# Altium integrated library ON Semi Logic Gate.IntLib: 342 symbols (part 1 of 7)
Pins are listed as number, name and electrical type; pins without a type are passive.

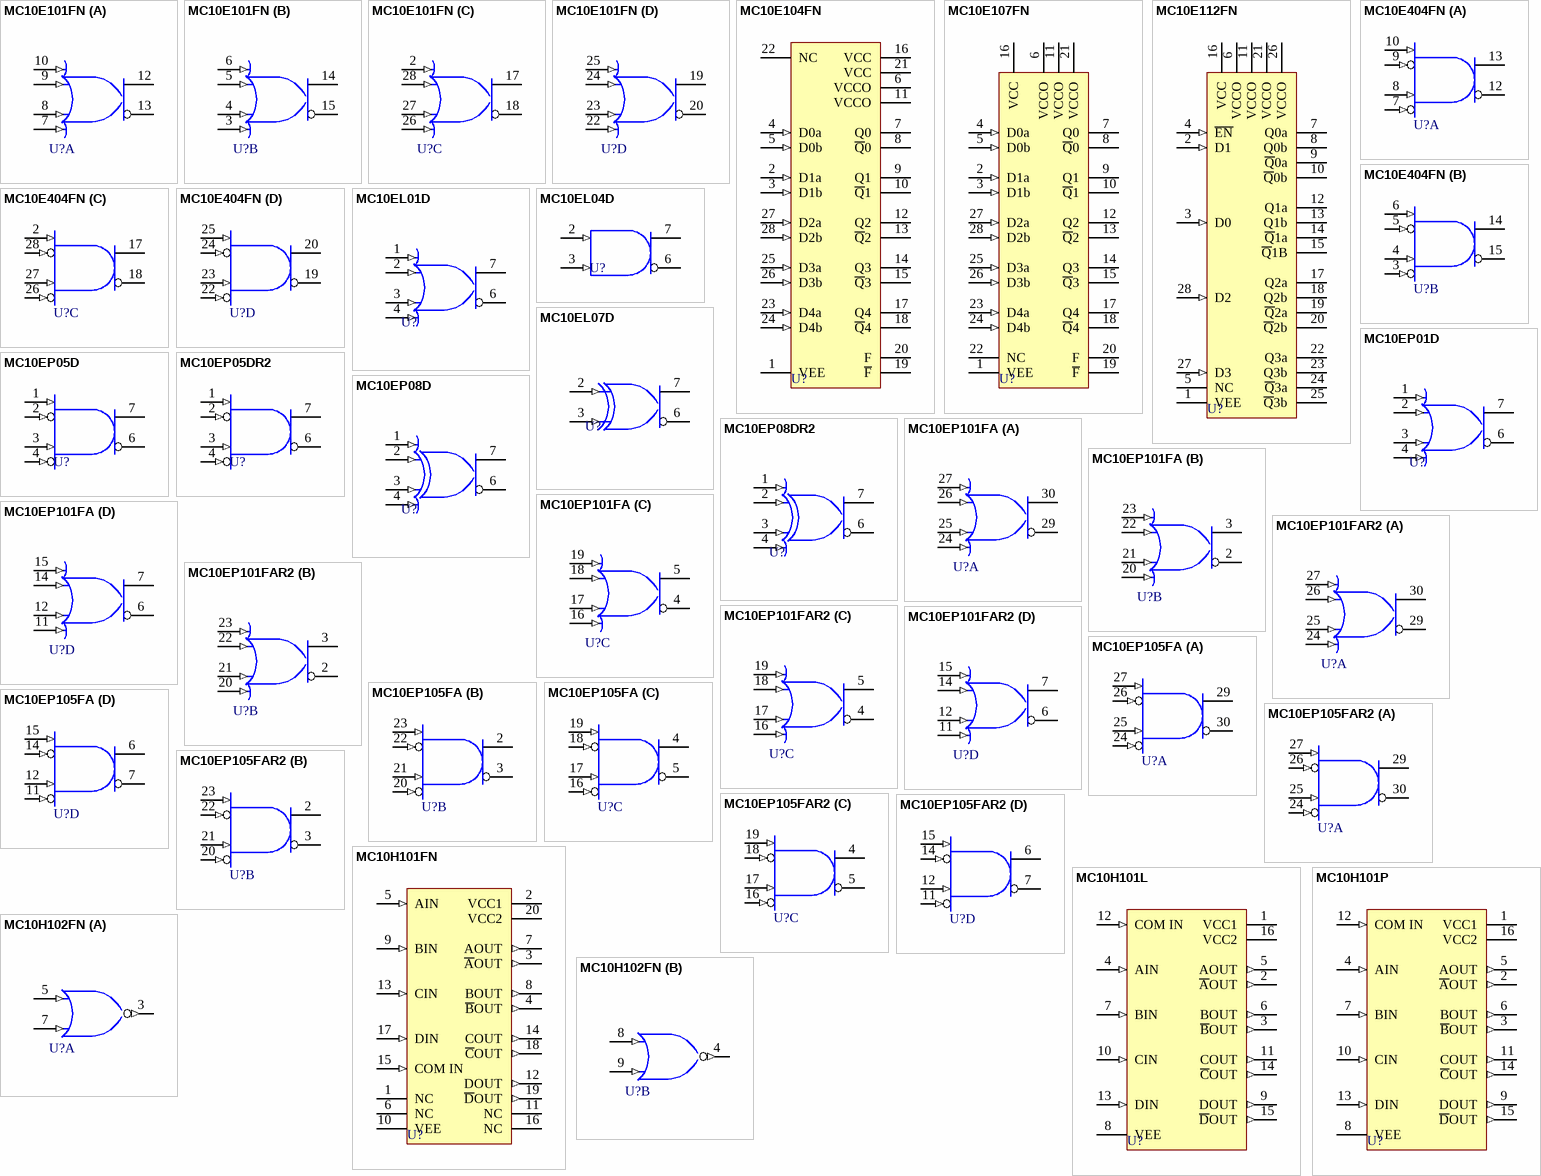
[diagram p0: symbols MC10E101FN to MC10H102FN]

## MC10E101FN
designator U?
Quad 4-Input OR/NOR Gate; Published: 15-Apr-2002; LatestRevisionDate: 12-Dec-2006; LatestRevisionNote: Dot placed on pins 15, 18, 20.; DatasheetVersion: 1996; PackageVersion: Feb-2000; PackageReference: 776-02; Publisher: Altium Limited; PackageDescription: 28-Pin Leaded Chip Carrier 1.27 mm Pitch; ComponentLink1Description: Manufacturer Link; ComponentLink1URL: http://www.onsemi.com/; ComponentLink2Description: Datasheet; ComponentLink2URL: http://www.onsemi.com/pub/Collateral/MC10E101-D.PDF
footprint 776-02_N (Leaded Chip Carrier, 28-Leads, Body 11.5x11.5mm, Pitch 1.27mm, IPC Medium Density)
footprint 776-02_L (Leaded Chip Carrier, 28-Leads, Body 11.5x11.5mm, Pitch 1.27mm, IPC High Density)
footprint 776-02_M (Leaded Chip Carrier, 28-Leads, Body 11.5x11.5mm, Pitch 1.27mm, IPC Low Density)
pins on every part: 1 VEE (power) hidden to VEE, 11 VCCO (power) hidden to VCCO, 16 VCC (power) hidden to VCC, 21 VCCO (power) hidden to VCCO
part A pins: 7 D0d (in), 8 D0c (in), 9 D0b (in), 10 D0a (in), 12 Q0 (oe), 13 ~{Q}0 (oe)
part B pins: 3 D1d (in), 4 D1c (in), 5 D1b (in), 6 D1a (in), 14 Q1 (oe), 15 ~{Q}1 (oe)
part C pins: 2 D2a (in), 17 Q2 (oe), 18 ~{Q}2 (oe), 26 D2d (in), 27 D2c (in), 28 D2b (in)
part D pins: 19 Q3 (oe), 20 ~{Q}3 (oe), 22 D3d (in), 23 D3c (in), 24 D3b (in), 25 D3a (in)

## MC10E104FN
designator U?
Quint 2-Input AND/NAND Gate; Published: 15-Apr-2002; LatestRevisionDate: 13-Apr-2006; LatestRevisionNote: IPC-7351 Footprint Added.; DatasheetVersion: 1996; PackageVersion: Feb-2000; PackageReference: 776-02; Publisher: Altium Limited; PackageDescription: 28-Pin Leaded Chip Carrier 1.27 mm Pitch; ComponentLink1Description: Manufacturer Link; ComponentLink1URL: http://www.onsemi.com/; ComponentLink2Description: Datasheet; ComponentLink2URL: http://www.onsemi.com/pub/Collateral/MC10E104-D.PDF
footprint 776-02_N (Leaded Chip Carrier, 28-Leads, Body 11.5x11.5mm, Pitch 1.27mm, IPC Medium Density)
footprint 776-02_L (Leaded Chip Carrier, 28-Leads, Body 11.5x11.5mm, Pitch 1.27mm, IPC High Density)
footprint 776-02_M (Leaded Chip Carrier, 28-Leads, Body 11.5x11.5mm, Pitch 1.27mm, IPC Low Density)
pins: 1 VEE (power), 2 D1a (in), 3 D1b (in), 4 D0a (in), 5 D0b (in), 6 VCCO (power), 7 Q0 (oe), 8 ~{Q}0 (oe), 9 Q1 (oe), 10 ~{Q}1 (oe), 11 VCCO (power), 12 Q2 (oe), 13 ~{Q}2 (oe), 14 Q3 (oe), 15 ~{Q}3 (oe), 16 VCC (power), 17 Q4 (oe), 18 ~{Q}4 (oe), 19 ~{F} (oe), 20 F (oe), 21 VCC (power), 22 NC, 23 D4a (in), 24 D4b (in), 25 D3a (in), 26 D3b (in), 27 D2a (in), 28 D2b (in)

## MC10E107FN
designator U?
Quint 2-Input XOR/XNOR Gate; Published: 15-Apr-2002; LatestRevisionDate: 13-Apr-2006; LatestRevisionNote: IPC-7351 Footprint Added.; DatasheetVersion: 1996; PackageVersion: Feb-2000; PackageReference: 776-02; Publisher: Altium Limited; PackageDescription: 28-Pin Leaded Chip Carrier 1.27 mm Pitch; ComponentLink1Description: Manufacturer Link; ComponentLink1URL: http://www.onsemi.com/; ComponentLink2Description: Datasheet; ComponentLink2URL: http://www.onsemi.com/pub/Collateral/MC10E107-D.PDF
footprint 776-02_N (Leaded Chip Carrier, 28-Leads, Body 11.5x11.5mm, Pitch 1.27mm, IPC Medium Density)
footprint 776-02_L (Leaded Chip Carrier, 28-Leads, Body 11.5x11.5mm, Pitch 1.27mm, IPC High Density)
footprint 776-02_M (Leaded Chip Carrier, 28-Leads, Body 11.5x11.5mm, Pitch 1.27mm, IPC Low Density)
pins: 1 VEE (power), 2 D1a (in), 3 D1b (in), 4 D0a (in), 5 D0b (in), 6 VCCO (power), 7 Q0 (oe), 8 ~{Q}0 (oe), 9 Q1 (oe), 10 ~{Q}1 (oe), 11 VCCO (power), 12 Q2 (oe), 13 ~{Q}2 (oe), 14 Q3 (oe), 15 ~{Q}3 (oe), 16 VCC (power), 17 Q4 (oe), 18 ~{Q}4 (oe), 19 ~{F} (oe), 20 F (oe), 21 VCCO (power), 22 NC, 23 D4a (in), 24 D4b (in), 25 D3a (in), 26 D3b (in), 27 D2a (in), 28 D2b (in)

## MC10E112FN
designator U?
Quad Driver; Published: 15-Apr-2002; LatestRevisionDate: 13-Apr-2006; LatestRevisionNote: IPC-7351 Footprint Added.; DatasheetVersion: 1996; PackageVersion: Feb-2000; PackageReference: 776-02; Publisher: Altium Limited; PackageDescription: 28-Pin Leaded Chip Carrier 1.27 mm Pitch; ComponentLink1Description: Manufacturer Link; ComponentLink1URL: http://www.onsemi.com/; ComponentLink2Description: Datasheet; ComponentLink2URL: http://www.onsemi.com/pub/Collateral/MC10E112-D.PDF
footprint 776-02_N (Leaded Chip Carrier, 28-Leads, Body 11.5x11.5mm, Pitch 1.27mm, IPC Medium Density)
footprint 776-02_L (Leaded Chip Carrier, 28-Leads, Body 11.5x11.5mm, Pitch 1.27mm, IPC High Density)
footprint 776-02_M (Leaded Chip Carrier, 28-Leads, Body 11.5x11.5mm, Pitch 1.27mm, IPC Low Density)
pins: 1 VEE (power), 2 D1 (in), 3 D0 (in), 4 ~{EN} (in), 5 NC, 6 VCCO (power), 7 Q0a (oe), 8 Q0b (oe), 9 ~{Q}0a (oe), 10 ~{Q}0b (oe), 11 VCCO (power), 12 Q1a (oe), 13 Q1b (oe), 14 ~{Q}1a (oe), 15 ~{Q}1B (oe), 16 VCC (power), 17 Q2a (oe), 18 Q2b (oe), 19 ~{Q}2a (oe), 20 ~{Q}2b (oe), 21 VCCO (power), 22 Q3a (oe), 23 Q3b (oe), 24 ~{Q}3a (oe), 25 ~{Q}3b (oe), 26 VCCO (power), 27 D3 (in), 28 D2 (in)

## MC10E404FN
designator U?
Quad Differential AND/NAND Gate; Published: 15-Apr-2002; LatestRevisionDate: 13-Apr-2006; LatestRevisionNote: IPC-7351 Footprint Added.; DatasheetVersion: 1996; PackageVersion: Feb-2000; PackageReference: 776-02; Publisher: Altium Limited; PackageDescription: 28-Pin Leaded Chip Carrier 1.27 mm Pitch; ComponentLink1Description: Manufacturer Link; ComponentLink1URL: http://www.onsemi.com/; ComponentLink2Description: Datasheet; ComponentLink2URL: http://www.onsemi.com/pub/Collateral/MC10E404-D.PDF
footprint 776-02_N (Leaded Chip Carrier, 28-Leads, Body 11.5x11.5mm, Pitch 1.27mm, IPC Medium Density)
footprint 776-02_L (Leaded Chip Carrier, 28-Leads, Body 11.5x11.5mm, Pitch 1.27mm, IPC High Density)
footprint 776-02_M (Leaded Chip Carrier, 28-Leads, Body 11.5x11.5mm, Pitch 1.27mm, IPC Low Density)
pins on every part: 1 VEE (power) hidden to VEE, 11 VCCO (power) hidden to VCCO, 16 VCC (power) hidden to VCC, 21 VCCO (power) hidden to VCCO
part A pins: 7 ~{D}0b (in), 8 D0b (in), 9 ~{D}0a (in), 10 D0a (in), 12 ~{Q}0 (oe), 13 Q0 (oe)
part B pins: 3 ~{D}1b (in), 4 D1b (in), 5 ~{D}1a (in), 6 D1a (in), 14 Q1 (oe), 15 ~{Q}1 (oe)
part C pins: 2 D2a (in), 17 Q2 (oe), 18 ~{Q}2 (oe), 26 ~{D}2b (in), 27 D2b (in), 28 ~{D}2a (in)
part D pins: 19 ~{Q}3 (oe), 20 Q3 (oe), 22 ~{D}3b (in), 23 D3b (in), 24 ~{D}3a (in), 25 D3a (in)

## MC10EL01D
designator U?
4-Input OR/NOR Gate; Published: 15-Apr-2002; LatestRevisionDate: 13-Apr-2006; LatestRevisionNote: IPC-7351 Footprint Added.; DatasheetVersion: 1996; PackageVersion: Feb-2000; PackageReference: 776-02; Publisher: Altium Limited; PackageDescription: 28-Pin Leaded Chip Carrier 1.27 mm Pitch; ComponentLink1Description: Manufacturer Link; ComponentLink1URL: http://www.onsemi.com/; ComponentLink2Description: Datasheet; ComponentLink2URL: http://www.onsemi.com/pub/Collateral/MC10EL01-D.PDF
footprint 776-02_N (Leaded Chip Carrier, 28-Leads, Body 11.5x11.5mm, Pitch 1.27mm, IPC Medium Density)
footprint 776-02_L (Leaded Chip Carrier, 28-Leads, Body 11.5x11.5mm, Pitch 1.27mm, IPC High Density)
footprint 776-02_M (Leaded Chip Carrier, 28-Leads, Body 11.5x11.5mm, Pitch 1.27mm, IPC Low Density)
pins: 1 D0 (in), 2 D1 (in), 3 D2 (in), 4 D3 (in), 5 VEE (power) hidden to VEE, 6 ~{Q} (oe), 7 Q (oe), 8 VCC (power) hidden to VCC

## MC10EL04D
designator U?
2-Input AND/NAND Gate; Note: NC Pins are pins 1, 4 and not drawn.; Published: 15-Apr-2002; LatestRevisionDate: 13-Apr-2006; LatestRevisionNote: IPC-7351 Footprint Added.; DatasheetVersion: 1996; PackageVersion: 1998; PackageReference: 751-05; Publisher: Altium Limited; PackageDescription: 8-Pin Small Outline Integrated Circuit 1.27 mm Pitch; Code_JEDEC: MS-012-AA; Code_IPC: SOIC127P600-8; ComponentLink1Description: Manufacturer Link; ComponentLink1URL: http://www.onsemi.com/; ComponentLink2Description: Datasheet; ComponentLink2URL: http://www.onsemi.com/pub/Collateral/MC10EL04-D.PDF
footprint 751-05_N (SOIC, 8-Leads, Body 4.9x3.9mm, Pitch 1.27mm, IPC Medium Density)
footprint 751-05_L (SOIC, 8-Leads, Body 4.9x3.9mm, Pitch 1.27mm, IPC High Density)
footprint 751-05_M (SOIC, 8-Leads, Body 4.9x3.9mm, Pitch 1.27mm, IPC Low Density)
pins: 2 D0 (in), 3 D1 (in), 5 VEE (power) hidden to VEE, 6 ~{Q} (oe), 7 Q (oe), 8 VCC (power) hidden to VCC

## MC10EL07D
designator U?
2-Input XOR/XNOR Gate; Note: NC Pins are pins 1, 4 and not drawn.; Published: 15-Apr-2002; LatestRevisionDate: 13-Apr-2006; LatestRevisionNote: IPC-7351 Footprint Added.; DatasheetVersion: 1996; PackageVersion: 1998; PackageReference: 751-05; Publisher: Altium Limited; PackageDescription: 8-Pin Small Outline Integrated Circuit 1.27 mm Pitch; Code_JEDEC: MS-012-AA; Code_IPC: SOIC127P600-8; ComponentLink1Description: Manufacturer Link; ComponentLink1URL: http://www.onsemi.com/; ComponentLink2Description: Datasheet; ComponentLink2URL: http://www.onsemi.com/pub/Collateral/MC10EL07-D.PDF
footprint 751-05_N (SOIC, 8-Leads, Body 4.9x3.9mm, Pitch 1.27mm, IPC Medium Density)
footprint 751-05_L (SOIC, 8-Leads, Body 4.9x3.9mm, Pitch 1.27mm, IPC High Density)
footprint 751-05_M (SOIC, 8-Leads, Body 4.9x3.9mm, Pitch 1.27mm, IPC Low Density)
pins: 2 D0 (in), 3 D1 (in), 5 VEE (power) hidden to VEE, 6 ~{Q} (oe), 7 Q (oe), 8 VCC (power) hidden to VCC

## MC10EP01D
designator U?
4-Input OR/NOR Gate; Published: 15-Apr-2002; LatestRevisionDate: 13-Apr-2006; LatestRevisionNote: IPC-7351 Footprint Added.; DatasheetVersion: Sep-1999; PackageVersion: Sep-1999; PackageReference: 751-06; Publisher: Altium Limited; PackageDescription: 8-Pin Small Outline Integrated Circuit 1.27 mm Pitch; Code_JEDEC: MS-012-AA; Code_IPC: SOIC127P600-8; ComponentLink1Description: Manufacturer Link; ComponentLink1URL: http://www.onsemi.com/; ComponentLink2Description: Datasheet; ComponentLink2URL: http://www.onsemi.com/pub/Collateral/MC10EP01-D.PDF
footprint 751-06_N (SOIC, 8-Leads, Body 4.9x3.9mm, Pitch 1.27mm, IPC Medium Density)
footprint 751-06_L (SOIC, 8-Leads, Body 4.9x3.9mm, Pitch 1.27mm, IPC High Density)
footprint 751-06_M (SOIC, 8-Leads, Body 4.9x3.9mm, Pitch 1.27mm, IPC Low Density)
pins: 1 D0 (in), 2 D1 (in), 3 D2 (in), 4 D3 (in), 5 VEE (power) hidden to VEE, 6 ~{Q} (oe), 7 Q (oe), 8 VCC (power) hidden to VCC

## MC10EP05D
designator U?
2-Input Differential AND/NAND Gate; Published: 15-Apr-2002; LatestRevisionDate: 13-Apr-2006; LatestRevisionNote: IPC-7351 Footprint Added.; DatasheetVersion: Sep-1999; PackageVersion: Sep-1999; PackageReference: 751-06; Publisher: Altium Limited; PackageDescription: 8-Pin Small Outline Integrated Circuit 1.27 mm Pitch; Code_JEDEC: MS-012-AA; Code_IPC: SOIC127P600-8; ComponentLink1Description: Manufacturer Link; ComponentLink1URL: http://www.onsemi.com/; ComponentLink2Description: Datasheet; ComponentLink2URL: http://www.onsemi.com/pub/Collateral/MC10EP05-D.PDF
footprint 751-06_N (SOIC, 8-Leads, Body 4.9x3.9mm, Pitch 1.27mm, IPC Medium Density)
footprint 751-06_L (SOIC, 8-Leads, Body 4.9x3.9mm, Pitch 1.27mm, IPC High Density)
footprint 751-06_M (SOIC, 8-Leads, Body 4.9x3.9mm, Pitch 1.27mm, IPC Low Density)
pins: 1 D0 (in), 2 ~{D}0 (in), 3 D1 (in), 4 ~{D}1 (in), 5 VEE (power) hidden to VEE, 6 ~{Q} (oe), 7 Q (oe), 8 VCC (power) hidden to VCC

## MC10EP05DR2
designator U?
2-Input Differential AND/NAND Gate; Published: 15-Apr-2002; LatestRevisionDate: 13-Apr-2006; LatestRevisionNote: IPC-7351 Footprint Added.; DatasheetVersion: Sep-1999; PackageVersion: Sep-1999; PackageReference: 751-06; Publisher: Altium Limited; PackageDescription: 8-Pin Small Outline Integrated Circuit 1.27 mm Pitch; Code_JEDEC: MS-012-AA; Code_IPC: SOIC127P600-8; ComponentLink1Description: Manufacturer Link; ComponentLink1URL: http://www.onsemi.com/; ComponentLink2Description: Datasheet; ComponentLink2URL: http://www.onsemi.com/pub/Collateral/MC10EP05-D.PDF
footprint 751-06_N (SOIC, 8-Leads, Body 4.9x3.9mm, Pitch 1.27mm, IPC Medium Density)
footprint 751-06_L (SOIC, 8-Leads, Body 4.9x3.9mm, Pitch 1.27mm, IPC High Density)
footprint 751-06_M (SOIC, 8-Leads, Body 4.9x3.9mm, Pitch 1.27mm, IPC Low Density)
pins: 1 D0 (in), 2 ~{D}0 (in), 3 D1 (in), 4 ~{D}1 (in), 5 VEE (power) hidden to VEE, 6 ~{Q} (oe), 7 Q (oe), 8 VCC (power) hidden to VCC

## MC10EP08D
designator U?
Differential 2-Input XOR/XNOR Gate; Published: 15-Apr-2002; LatestRevisionDate: 13-Apr-2006; LatestRevisionNote: IPC-7351 Footprint Added.; DatasheetVersion: Sep-1999; PackageVersion: Sep-1999; PackageReference: 751-06; Publisher: Altium Limited; PackageDescription: 8-Pin Small Outline Integrated Circuit 1.27 mm Pitch; Code_JEDEC: MS-012-AA; Code_IPC: SOIC127P600-8; ComponentLink1Description: Manufacturer Link; ComponentLink1URL: http://www.onsemi.com/; ComponentLink2Description: Datasheet; ComponentLink2URL: http://www.onsemi.com/pub/Collateral/MC10EP08-D.PDF
footprint 751-06_N (SOIC, 8-Leads, Body 4.9x3.9mm, Pitch 1.27mm, IPC Medium Density)
footprint 751-06_L (SOIC, 8-Leads, Body 4.9x3.9mm, Pitch 1.27mm, IPC High Density)
footprint 751-06_M (SOIC, 8-Leads, Body 4.9x3.9mm, Pitch 1.27mm, IPC Low Density)
pins: 1 D0 (in), 2 ~{D}0 (in), 3 D1 (in), 4 ~{D}1 (in), 5 VEE (power) hidden to VEE, 6 ~{Q} (oe), 7 Q (oe), 8 VCC (power) hidden to VCC

## MC10EP08DR2
designator U?
Differential 2-Input XOR/XNOR Gate; Published: 15-Apr-2002; LatestRevisionDate: 13-Apr-2006; LatestRevisionNote: IPC-7351 Footprint Added.; DatasheetVersion: Sep-1999; PackageVersion: Sep-1999; PackageReference: 751-06; Publisher: Altium Limited; PackageDescription: 8-Pin Small Outline Integrated Circuit 1.27 mm Pitch; Code_JEDEC: MS-012-AA; Code_IPC: SOIC127P600-8; ComponentLink1Description: Manufacturer Link; ComponentLink1URL: http://www.onsemi.com/; ComponentLink2Description: Datasheet; ComponentLink2URL: http://www.onsemi.com/pub/Collateral/MC10EP08-D.PDF
footprint 751-06_N (SOIC, 8-Leads, Body 4.9x3.9mm, Pitch 1.27mm, IPC Medium Density)
footprint 751-06_L (SOIC, 8-Leads, Body 4.9x3.9mm, Pitch 1.27mm, IPC High Density)
footprint 751-06_M (SOIC, 8-Leads, Body 4.9x3.9mm, Pitch 1.27mm, IPC Low Density)
pins: 1 D0 (in), 2 ~{D}0 (in), 3 D1 (in), 4 ~{D}1 (in), 5 VEE (power) hidden to VEE, 6 ~{Q} (oe), 7 Q (oe), 8 VCC (power) hidden to VCC

## MC10EP101FA
designator U?
Quad 4-Input OR/NOR; Note: NC pin is pin 9 and not drawn; Published: 15-Apr-2002; LatestRevisionDate: 13-Apr-2006; LatestRevisionNote: IPC-7351 Footprint Added.; DatasheetVersion: Mar-2000; PackageVersion: May-2000; PackageReference: 873A-02; Publisher: Altium Limited; PackageDescription: 32-Pin Thin Quad Flat Pack 0.8 mm Pitch; ComponentLink1Description: Manufacturer Link; ComponentLink1URL: http://www.onsemi.com/; ComponentLink2Description: Datasheet; ComponentLink2URL: http://www.onsemi.com/pub/Collateral/MC10EP101-D.PDF
footprint 873A-02_N (Thin QFP, 32-Leads, Body 7x7mm, Pitch 0.8mm, IPC Medium Density)
footprint 873A-02_L (Thin QFP, 32-Leads, Body 7x7mm, Pitch 0.8mm, IPC High Density)
footprint 873A-02_M (Thin QFP, 32-Leads, Body 7x7mm, Pitch 0.8mm, IPC Low Density)
pins on every part: 1 VCC (power) hidden to VCC, 8 VCC (power) hidden to VCC, 10 VEE (power) hidden to VEE, 13 VCC (power) hidden to VCC, 28 VEE (power) hidden to VEE, 31 VCC (power) hidden to VCC, 32 VCC (power) hidden to VCC
part A pins: 24 D0d (in), 25 D0c (in), 26 D0b (in), 27 D0a (in), 29 ~{Q}0 (oe), 30 Q0 (oe)
part B pins: 2 ~{Q}1 (oe), 3 Q1 (oe), 20 D1d (in), 21 D1c (in), 22 D1b (in), 23 D1a (in)
part C pins: 4 ~{Q}2 (oe), 5 Q2 (oe), 16 D2d (in), 17 D2c (in), 18 D2b (in), 19 D2a (in)
part D pins: 6 ~{Q}3 (oe), 7 Q3 (oe), 11 D3d (in), 12 D3c (in), 14 D3b (in), 15 D3a (in)

## MC10EP101FAR2
designator U?
Quad 4-Input OR/NOR; Note: NC pin is pin 9 and not drawn; Published: 15-Apr-2002; LatestRevisionDate: 13-Apr-2006; LatestRevisionNote: IPC-7351 Footprint Added.; DatasheetVersion: Mar-2000; PackageVersion: May-2000; PackageReference: 873A-02; Publisher: Altium Limited; PackageDescription: 32-Pin Thin Quad Flat Pack 0.8 mm Pitch; ComponentLink1Description: Manufacturer Link; ComponentLink1URL: http://www.onsemi.com/; ComponentLink2Description: Datasheet; ComponentLink2URL: http://www.onsemi.com/pub/Collateral/MC10EP101-D.PDF
footprint 873A-02_N (Thin QFP, 32-Leads, Body 7x7mm, Pitch 0.8mm, IPC Medium Density)
footprint 873A-02_L (Thin QFP, 32-Leads, Body 7x7mm, Pitch 0.8mm, IPC High Density)
footprint 873A-02_M (Thin QFP, 32-Leads, Body 7x7mm, Pitch 0.8mm, IPC Low Density)
pins on every part: 1 VCC (power) hidden to VCC, 8 VCC (power) hidden to VCC, 10 VEE (power) hidden to VEE, 13 VCC (power) hidden to VCC, 28 VEE (power) hidden to VEE, 31 VCC (power) hidden to VCC, 32 VCC (power) hidden to VCC
part A pins: 24 D0d (in), 25 D0c (in), 26 D0b (in), 27 D0a (in), 29 ~{Q}0 (oe), 30 Q0 (oe)
part B pins: 2 ~{Q}1 (oe), 3 Q1 (oe), 20 D1d (in), 21 D1c (in), 22 D1b (in), 23 D1a (in)
part C pins: 4 ~{Q}2 (oe), 5 Q2 (oe), 16 D2d (in), 17 D2c (in), 18 D2b (in), 19 D2a (in)
part D pins: 6 ~{Q}3 (oe), 7 Q3 (oe), 11 D3d (in), 12 D3c (in), 14 D3b (in), 15 D3a (in)

## MC10EP105FA
designator U?
Quad 2-Input Differential AND/NAND Gate; Note: NC pin is 9 and not drawn; Published: 15-Apr-2002; LatestRevisionDate: 13-Apr-2006; LatestRevisionNote: IPC-7351 Footprint Added.; DatasheetVersion: Dec-1999; PackageVersion: May-2000; PackageReference: 873A-02; Publisher: Altium Limited; PackageDescription: 32-Pin Thin Quad Flat Pack 0.8 mm Pitch; ComponentLink1Description: Manufacturer Link; ComponentLink1URL: http://www.onsemi.com/; ComponentLink2Description: Datasheet; ComponentLink2URL: http://www.onsemi.com/pub/Collateral/MC10EP105-D.PDF
footprint 873A-02_N (Thin QFP, 32-Leads, Body 7x7mm, Pitch 0.8mm, IPC Medium Density)
footprint 873A-02_L (Thin QFP, 32-Leads, Body 7x7mm, Pitch 0.8mm, IPC High Density)
footprint 873A-02_M (Thin QFP, 32-Leads, Body 7x7mm, Pitch 0.8mm, IPC Low Density)
pins on every part: 1 VCC (power) hidden to VCC, 8 VCC (power) hidden to VCC, 10 VEE (power) hidden to VEE, 13 VCC (power) hidden to VCC, 28 VEE (power) hidden to VEE, 31 VCC (power) hidden to VCC, 32 VCC (power) hidden to VCC
part A pins: 24 ~{B} (in), 25 B (in), 26 ~{A} (in), 27 A (in), 29 Y (oe), 30 ~{Y} (oe)
part B pins: 2 Y (oe), 3 ~{Y} (oe), 20 ~{B} (in), 21 B (in), 22 ~{A} (in), 23 A (in)
part C pins: 4 Y (oe), 5 ~{Y} (oe), 16 ~{B} (in), 17 B (in), 18 ~{A} (in), 19 A (in)
part D pins: 6 Y (oe), 7 ~{Y} (oe), 11 ~{B} (in), 12 B (in), 14 ~{A} (in), 15 A (in)

## MC10EP105FAR2
designator U?
Quad 2-Input Differential AND/NAND Gate; Note: NC pin is 9 and not drawn; Published: 15-Apr-2002; LatestRevisionDate: 13-Apr-2006; LatestRevisionNote: IPC-7351 Footprint Added.; DatasheetVersion: Dec-1999; PackageVersion: May-2000; PackageReference: 873A-02; Publisher: Altium Limited; PackageDescription: 32-Pin Thin Quad Flat Pack 0.8 mm Pitch; ComponentLink1Description: Manufacturer Link; ComponentLink1URL: http://www.onsemi.com/; ComponentLink2Description: Datasheet; ComponentLink2URL: http://www.onsemi.com/pub/Collateral/MC10EP105-D.PDF
footprint 873A-02_N (Thin QFP, 32-Leads, Body 7x7mm, Pitch 0.8mm, IPC Medium Density)
footprint 873A-02_L (Thin QFP, 32-Leads, Body 7x7mm, Pitch 0.8mm, IPC High Density)
footprint 873A-02_M (Thin QFP, 32-Leads, Body 7x7mm, Pitch 0.8mm, IPC Low Density)
pins on every part: 1 VCC (power) hidden to VCC, 8 VCC (power) hidden to VCC, 10 VEE (power) hidden to VEE, 13 VCC (power) hidden to VCC, 28 VEE (power) hidden to VEE, 31 VCC (power) hidden to VCC, 32 VCC (power) hidden to VCC
part A pins: 24 ~{B} (in), 25 B (in), 26 ~{A} (in), 27 A (in), 29 Y (oe), 30 ~{Y} (oe)
part B pins: 2 Y (oe), 3 ~{Y} (oe), 20 ~{B} (in), 21 B (in), 22 ~{A} (in), 23 A (in)
part C pins: 4 Y (oe), 5 ~{Y} (oe), 16 ~{B} (in), 17 B (in), 18 ~{A} (in), 19 A (in)
part D pins: 6 Y (oe), 7 ~{Y} (oe), 11 ~{B} (in), 12 B (in), 14 ~{A} (in), 15 A (in)

## MC10H101FN
designator U?
Quad OR/NOR Gate; Note: NC pins are pins 1, 6, 11, 16; Published: 15-Apr-2002; LatestRevisionDate: 13-Apr-2006; LatestRevisionNote: IPC-7351 Footprint Added.; DatasheetVersion: 1996; PackageVersion: 1996; PackageReference: 775-02; Publisher: Altium Limited; PackageDescription: 20-Pin Leaded Chip Carrier 1.27 mm Pitch; ComponentLink1Description: Manufacturer Link; ComponentLink1URL: http://www.onsemi.com/; ComponentLink2Description: Datasheet; ComponentLink2URL: http://www.onsemi.com/pub/Collateral/MC10H101-D.PDF
footprint 775-02_N (Leaded Chip Carrier, 20-Leads, Body 9x9mm, Pitch 1.27mm, IPC Medium Density)
footprint 775-02_L (Leaded Chip Carrier, 20-Leads, Body 9x9mm, Pitch 1.27mm, IPC High Density)
footprint 775-02_M (Leaded Chip Carrier, 20-Leads, Body 9x9mm, Pitch 1.27mm, IPC Low Density)
pins: 1 NC, 2 VCC1 (power), 3 ~{A}OUT (out), 4 ~{B}OUT (out), 5 AIN (in), 6 NC, 7 AOUT (out), 8 BOUT (out), 9 BIN (in), 10 VEE (power), 11 NC, 12 DOUT (out), 13 CIN (in), 14 COUT (out), 15 COM IN (in), 16 NC, 17 DIN (in), 18 ~{C}OUT (out), 19 ~{D}OUT (out), 20 VCC2 (power)

## MC10H101L
designator U?
Quad OR/NOR Gate; Published: 15-Apr-2002; DatasheetVersion: 1996; PackageVersion: 1996; PackageReference: 620-10; Publisher: Altium Limited; PackageDescription: DIP; 16 Leads; Row Spacing 7.62 mm; Pitch 2.54 mm; ComponentLink1Description: Manufacturer Link; ComponentLink1URL: http://www.onsemi.com/; ComponentLink2Description: Datasheet; ComponentLink2URL: http://www.onsemi.com/pub/Collateral/MC10H101-D.PDF
footprint 620-10 (DIP; 16 Leads; Row Spacing 7.62 mm; Pitch 2.54 mm)
pins: 1 VCC1 (power), 2 ~{A}OUT (out), 3 ~{B}OUT (out), 4 AIN (in), 5 AOUT (out), 6 BOUT (out), 7 BIN (in), 8 VEE (power), 9 DOUT (out), 10 CIN (in), 11 COUT (out), 12 COM IN (in), 13 DIN (in), 14 ~{C}OUT (out), 15 ~{D}OUT (out), 16 VCC2 (power)

## MC10H101P
designator U?
Quad OR/NOR Gate; Published: 15-Apr-2002; DatasheetVersion: 1996; PackageVersion: Apr-2000; PackageReference: 648-08; Publisher: Altium Limited; PackageDescription: DIP; 16 Leads; Row Spacing 7.62 mm; Pitch 2.54 mm; Code_JEDEC: MS-001-BB; ComponentLink1Description: Manufacturer Link; ComponentLink1URL: http://www.onsemi.com/; ComponentLink2Description: Datasheet; ComponentLink2URL: http://www.onsemi.com/pub/Collateral/MC10H101-D.PDF
footprint 648-08 (DIP; 16 Leads; Row Spacing 7.62 mm; Pitch 2.54 mm)
pins: 1 VCC1 (power), 2 ~{A}OUT (out), 3 ~{B}OUT (out), 4 AIN (in), 5 AOUT (out), 6 BOUT (out), 7 BIN (in), 8 VEE (power), 9 DOUT (out), 10 CIN (in), 11 COUT (out), 12 COM IN (in), 13 DIN (in), 14 ~{C}OUT (out), 15 ~{D}OUT (out), 16 VCC2 (power)

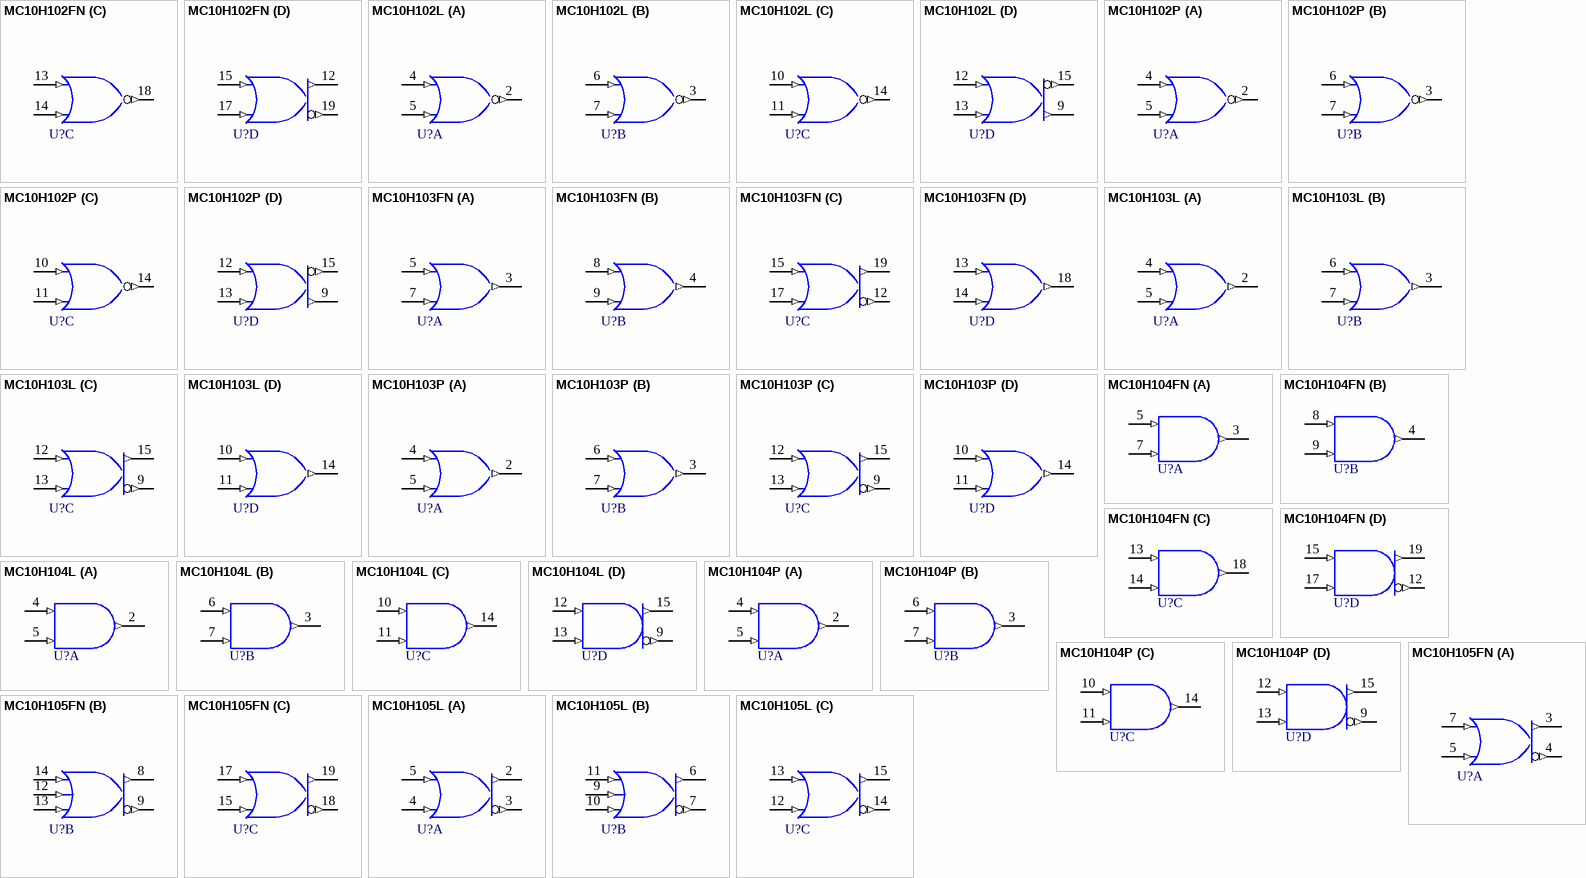
[diagram p1: symbols MC10H102FN to MC10H105L]

## MC10H102FN
designator U?
Quad 2-Input NOR Gate; Note: NC Pins are pins 1, 6, 11, 16.; Published: 15-Apr-2002; LatestRevisionDate: 13-Apr-2006; LatestRevisionNote: IPC-7351 Footprint Added.; DatasheetVersion: 1996; PackageVersion: 1996; PackageReference: 775-02; Publisher: Altium Limited; PackageDescription: 20-Pin Leaded Chip Carrier 1.27 mm Pitch; ComponentLink1Description: Manufacturer Link; ComponentLink1URL: http://www.onsemi.com/; ComponentLink2Description: Datasheet; ComponentLink2URL: http://www.onsemi.com/pub/Collateral/MC10H102-D.PDF
footprint 775-02_N (Leaded Chip Carrier, 20-Leads, Body 9x9mm, Pitch 1.27mm, IPC Medium Density)
footprint 775-02_L (Leaded Chip Carrier, 20-Leads, Body 9x9mm, Pitch 1.27mm, IPC High Density)
footprint 775-02_M (Leaded Chip Carrier, 20-Leads, Body 9x9mm, Pitch 1.27mm, IPC Low Density)
pins on every part: 2 VCC1 (power) hidden to VCC1, 10 VEE (power) hidden to VEE, 20 VCC2 (power) hidden to VCC2
part A pins: 3 ~{Y} (out), 5 A (in), 7 B (in)
part B pins: 4 ~{Y} (out), 8 A (in), 9 B (in)
part C pins: 13 A (in), 14 B (in), 18 ~{Y} (out)
part D pins: 12 Y (out), 15 A (in), 17 B (in), 19 ~{Y} (out)

## MC10H102L
designator U?
Quad 2-Input NOR Gate; Published: 15-Apr-2002; LatestRevisionDate: 28-Feb-2003; LatestRevisionNote: Duplicate Pins Removed; DatasheetVersion: 1996; PackageVersion: 1996; PackageReference: 620-10; Publisher: Altium Limited; PackageDescription: DIP; 16 Leads; Row Spacing 7.62 mm; Pitch 2.54 mm; ComponentLink1Description: Manufacturer Link; ComponentLink1URL: http://www.onsemi.com/; ComponentLink2Description: Datasheet; ComponentLink2URL: http://www.onsemi.com/pub/Collateral/MC10H102-D.PDF
footprint 620-10 (DIP; 16 Leads; Row Spacing 7.62 mm; Pitch 2.54 mm)
pins on every part: 1 VCC1 (power) hidden to VCC1, 8 VEE (power) hidden to VEE, 16 VCC2 (power) hidden to VCC2
part A pins: 2 ~{AOUT} (out), 4 AIN (in), 5 AIN (in)
part B pins: 3 ~{BOUT} (out), 6 BIN (in), 7 BIN (in)
part C pins: 10 CIN (in), 11 CIN (in), 14 ~{COUT} (out)
part D pins: 9 DOUT (out), 12 DIN (in), 13 DIN (in), 15 ~{DOUT} (out)

## MC10H102P
designator U?
Quad 2-Input NOR Gate; Published: 15-Apr-2002; LatestRevisionDate: 28-Feb-2003; LatestRevisionNote: Duplicate Pins Removed; DatasheetVersion: 1996; PackageVersion: Apr-2000; PackageReference: 648-08; Publisher: Altium Limited; PackageDescription: DIP; 16 Leads; Row Spacing 7.62 mm; Pitch 2.54 mm; Code_JEDEC: MS-001-BB; ComponentLink1Description: Manufacturer Link; ComponentLink1URL: http://www.onsemi.com/; ComponentLink2Description: Datasheet; ComponentLink2URL: http://www.onsemi.com/pub/Collateral/MC10H102-D.PDF
footprint 648-08 (DIP; 16 Leads; Row Spacing 7.62 mm; Pitch 2.54 mm)
pins on every part: 1 VCC1 (power) hidden to VCC1, 8 VEE (power) hidden to VEE, 16 VCC2 (power) hidden to VCC2
part A pins: 2 ~{AOUT} (out), 4 AIN (in), 5 AIN (in)
part B pins: 3 ~{BOUT} (out), 6 BIN (in), 7 BIN (in)
part C pins: 10 CIN (in), 11 CIN (in), 14 ~{COUT} (out)
part D pins: 9 DOUT (out), 12 DIN (in), 13 DIN (in), 15 ~{DOUT} (out)

## MC10H103FN
designator U?
Quad 2-Input OR Gate; Note: NC Pins are pins 1, 6, 11, 16.; Published: 15-Apr-2002; LatestRevisionDate: 13-Apr-2006; LatestRevisionNote: IPC-7351 Footprint Added.; DatasheetVersion: 1996; PackageVersion: 1996; PackageReference: 775-02; Publisher: Altium Limited; PackageDescription: 20-Pin Leaded Chip Carrier 1.27 mm Pitch; ComponentLink1Description: Manufacturer Link; ComponentLink1URL: http://www.onsemi.com/; ComponentLink2Description: Datasheet; ComponentLink2URL: http://www.onsemi.com/pub/Collateral/MC10H103-D.PDF
footprint 775-02_N (Leaded Chip Carrier, 20-Leads, Body 9x9mm, Pitch 1.27mm, IPC Medium Density)
footprint 775-02_L (Leaded Chip Carrier, 20-Leads, Body 9x9mm, Pitch 1.27mm, IPC High Density)
footprint 775-02_M (Leaded Chip Carrier, 20-Leads, Body 9x9mm, Pitch 1.27mm, IPC Low Density)
pins on every part: 2 VCC1 (power) hidden to VCC1, 10 VEE (power) hidden to VEE, 20 VCC2 (power) hidden to VCC2
part A pins: 3 Y (out), 5 A (in), 7 B (in)
part B pins: 4 Y (out), 8 A (in), 9 B (in)
part C pins: 12 ~{Y} (out), 15 A (in), 17 B (in), 19 Y (out)
part D pins: 13 A (in), 14 B (in), 18 Y (out)

## MC10H103L
designator U?
Quad 2-Input OR Gate; Published: 15-Apr-2002; DatasheetVersion: 1996; PackageVersion: 1996; PackageReference: 620-10; Publisher: Altium Limited; PackageDescription: DIP; 16 Leads; Row Spacing 7.62 mm; Pitch 2.54 mm; ComponentLink1Description: Manufacturer Link; ComponentLink1URL: http://www.onsemi.com/; ComponentLink2Description: Datasheet; ComponentLink2URL: http://www.onsemi.com/pub/Collateral/MC10H103-D.PDF
footprint 620-10 (DIP; 16 Leads; Row Spacing 7.62 mm; Pitch 2.54 mm)
pins on every part: 1 VCC1 (power) hidden to VCC1, 8 VEE (power) hidden to VEE, 16 VCC2 (power) hidden to VCC2
part A pins: 2 Y (out), 4 A (in), 5 B (in)
part B pins: 3 Y (out), 6 A (in), 7 B (in)
part C pins: 9 ~{Y} (out), 12 A (in), 13 B (in), 15 Y (out)
part D pins: 10 A (in), 11 B (in), 14 Y (out)

## MC10H103P
designator U?
Quad 2-Input OR Gate; Published: 15-Apr-2002; DatasheetVersion: 1996; PackageVersion: Apr-2000; PackageReference: 648-08; Publisher: Altium Limited; PackageDescription: DIP; 16 Leads; Row Spacing 7.62 mm; Pitch 2.54 mm; Code_JEDEC: MS-001-BB; ComponentLink1Description: Manufacturer Link; ComponentLink1URL: http://www.onsemi.com/; ComponentLink2Description: Datasheet; ComponentLink2URL: http://www.onsemi.com/pub/Collateral/MC10H103-D.PDF
footprint 648-08 (DIP; 16 Leads; Row Spacing 7.62 mm; Pitch 2.54 mm)
pins on every part: 1 VCC1 (power) hidden to VCC1, 8 VEE (power) hidden to VEE, 16 VCC2 (power) hidden to VCC2
part A pins: 2 Y (out), 4 A (in), 5 B (in)
part B pins: 3 Y (out), 6 A (in), 7 B (in)
part C pins: 9 ~{Y} (out), 12 A (in), 13 B (in), 15 Y (out)
part D pins: 10 A (in), 11 B (in), 14 Y (out)

## MC10H104FN
designator U?
Quad 2-Input AND Gate; Note: NC Pins are pins 1, 6, 11, 16.; Published: 15-Apr-2002; LatestRevisionDate: 13-Apr-2006; LatestRevisionNote: IPC-7351 Footprint Added.; DatasheetVersion: 1996; PackageVersion: 1996; PackageReference: 775-02; Publisher: Altium Limited; PackageDescription: 20-Pin Leaded Chip Carrier 1.27 mm Pitch; ComponentLink1Description: Manufacturer Link; ComponentLink1URL: http://www.onsemi.com/; ComponentLink2Description: Datasheet; ComponentLink2URL: http://www.onsemi.com/pub/Collateral/MC10H104-D.PDF
footprint 775-02_N (Leaded Chip Carrier, 20-Leads, Body 9x9mm, Pitch 1.27mm, IPC Medium Density)
footprint 775-02_L (Leaded Chip Carrier, 20-Leads, Body 9x9mm, Pitch 1.27mm, IPC High Density)
footprint 775-02_M (Leaded Chip Carrier, 20-Leads, Body 9x9mm, Pitch 1.27mm, IPC Low Density)
pins on every part: 2 VCC1 (power) hidden to VCC1, 10 VEE (power) hidden to VEE, 20 VCC2 (power) hidden to VCC2
part A pins: 3 Y (out), 5 A (in), 7 B (in)
part B pins: 4 Y (out), 8 A (in), 9 B (in)
part C pins: 13 A (in), 14 B (in), 18 Y (out)
part D pins: 12 ~{Y} (out), 15 A (in), 17 B (in), 19 Y (out)

## MC10H104L
designator U?
Quad 2-Input AND Gate; Published: 15-Apr-2002; DatasheetVersion: 1996; PackageVersion: 1996; PackageReference: 620-10; Publisher: Altium Limited; PackageDescription: DIP; 16 Leads; Row Spacing 7.62 mm; Pitch 2.54 mm; ComponentLink1Description: Manufacturer Link; ComponentLink1URL: http://www.onsemi.com/; ComponentLink2Description: Datasheet; ComponentLink2URL: http://www.onsemi.com/pub/Collateral/MC10H104-D.PDF
footprint 620-10 (DIP; 16 Leads; Row Spacing 7.62 mm; Pitch 2.54 mm)
pins on every part: 1 VCC1 (power) hidden to VCC1, 8 VEE (power) hidden to VEE, 16 VCC2 (power) hidden to VCC2
part A pins: 2 Y (out), 4 A (in), 5 B (in)
part B pins: 3 Y (out), 6 A (in), 7 B (in)
part C pins: 10 A (in), 11 B (in), 14 Y (out)
part D pins: 9 ~{Y} (out), 12 A (in), 13 B (in), 15 Y (out)

## MC10H104P
designator U?
Quad 2-Input AND Gate; Published: 15-Apr-2002; DatasheetVersion: 1996; PackageVersion: Apr-2000; PackageReference: 648-08; Publisher: Altium Limited; PackageDescription: DIP; 16 Leads; Row Spacing 7.62 mm; Pitch 2.54 mm; Code_JEDEC: MS-001-BB; ComponentLink1Description: Manufacturer Link; ComponentLink1URL: http://www.onsemi.com/; ComponentLink2Description: Datasheet; ComponentLink2URL: http://www.onsemi.com/pub/Collateral/MC10H104-D.PDF
footprint 648-08 (DIP; 16 Leads; Row Spacing 7.62 mm; Pitch 2.54 mm)
pins on every part: 1 VCC1 (power) hidden to VCC1, 8 VEE (power) hidden to VEE, 16 VCC2 (power) hidden to VCC2
part A pins: 2 Y (out), 4 A (in), 5 B (in)
part B pins: 3 Y (out), 6 A (in), 7 B (in)
part C pins: 10 A (in), 11 B (in), 14 Y (out)
part D pins: 9 ~{Y} (out), 12 A (in), 13 B (in), 15 Y (out)

## MC10H105FN
designator U?
Triple 2-3-2-Input OR/NOR Gate; Note: NC Pins are pins 1, 6, 11, 16.; Published: 15-Apr-2002; LatestRevisionDate: 13-Apr-2006; LatestRevisionNote: IPC-7351 Footprint Added.; DatasheetVersion: 1996; PackageVersion: 1996; PackageReference: 775-02; Publisher: Altium Limited; PackageDescription: 20-Pin Leaded Chip Carrier 1.27 mm Pitch; ComponentLink1Description: Manufacturer Link; ComponentLink1URL: http://www.onsemi.com/; ComponentLink2Description: Datasheet; ComponentLink2URL: http://www.onsemi.com/pub/Collateral/MC10H105-D.PDF
footprint 775-02_N (Leaded Chip Carrier, 20-Leads, Body 9x9mm, Pitch 1.27mm, IPC Medium Density)
footprint 775-02_L (Leaded Chip Carrier, 20-Leads, Body 9x9mm, Pitch 1.27mm, IPC High Density)
footprint 775-02_M (Leaded Chip Carrier, 20-Leads, Body 9x9mm, Pitch 1.27mm, IPC Low Density)
pins on every part: 2 VCC1 (power) hidden to VCC1, 10 VEE (power) hidden to VEE, 20 VCC2 (power) hidden to VCC2
part A pins: 3 Y (out), 4 ~{Y} (out), 5 B (in), 7 A (in)
part B pins: 8 Y (out), 9 ~{Y} (out), 12 B (in), 13 C (in), 14 A (in)
part C pins: 15 B (in), 17 A (in), 18 ~{Y} (out), 19 Y (out)

## MC10H105L
designator U?
Triple 2-3-2-Input OR/NOR Gate; Published: 15-Apr-2002; DatasheetVersion: 1996; PackageVersion: 1996; PackageReference: 620-10; Publisher: Altium Limited; PackageDescription: DIP; 16 Leads; Row Spacing 7.62 mm; Pitch 2.54 mm; ComponentLink1Description: Manufacturer Link; ComponentLink1URL: http://www.onsemi.com/; ComponentLink2Description: Datasheet; ComponentLink2URL: http://www.onsemi.com/pub/Collateral/MC10H105-D.PDF
footprint 620-10 (DIP; 16 Leads; Row Spacing 7.62 mm; Pitch 2.54 mm)
pins on every part: 1 VCC1 (power) hidden to VCC1, 8 VEE (power) hidden to VEE, 16 VCC2 (power) hidden to VCC2
part A pins: 2 Y (out), 3 ~{Y} (out), 4 B (in), 5 A (in)
part B pins: 6 Y (out), 7 ~{Y} (out), 9 B (in), 10 C (in), 11 A (in)
part C pins: 12 B (in), 13 A (in), 14 ~{Y} (out), 15 Y (out)

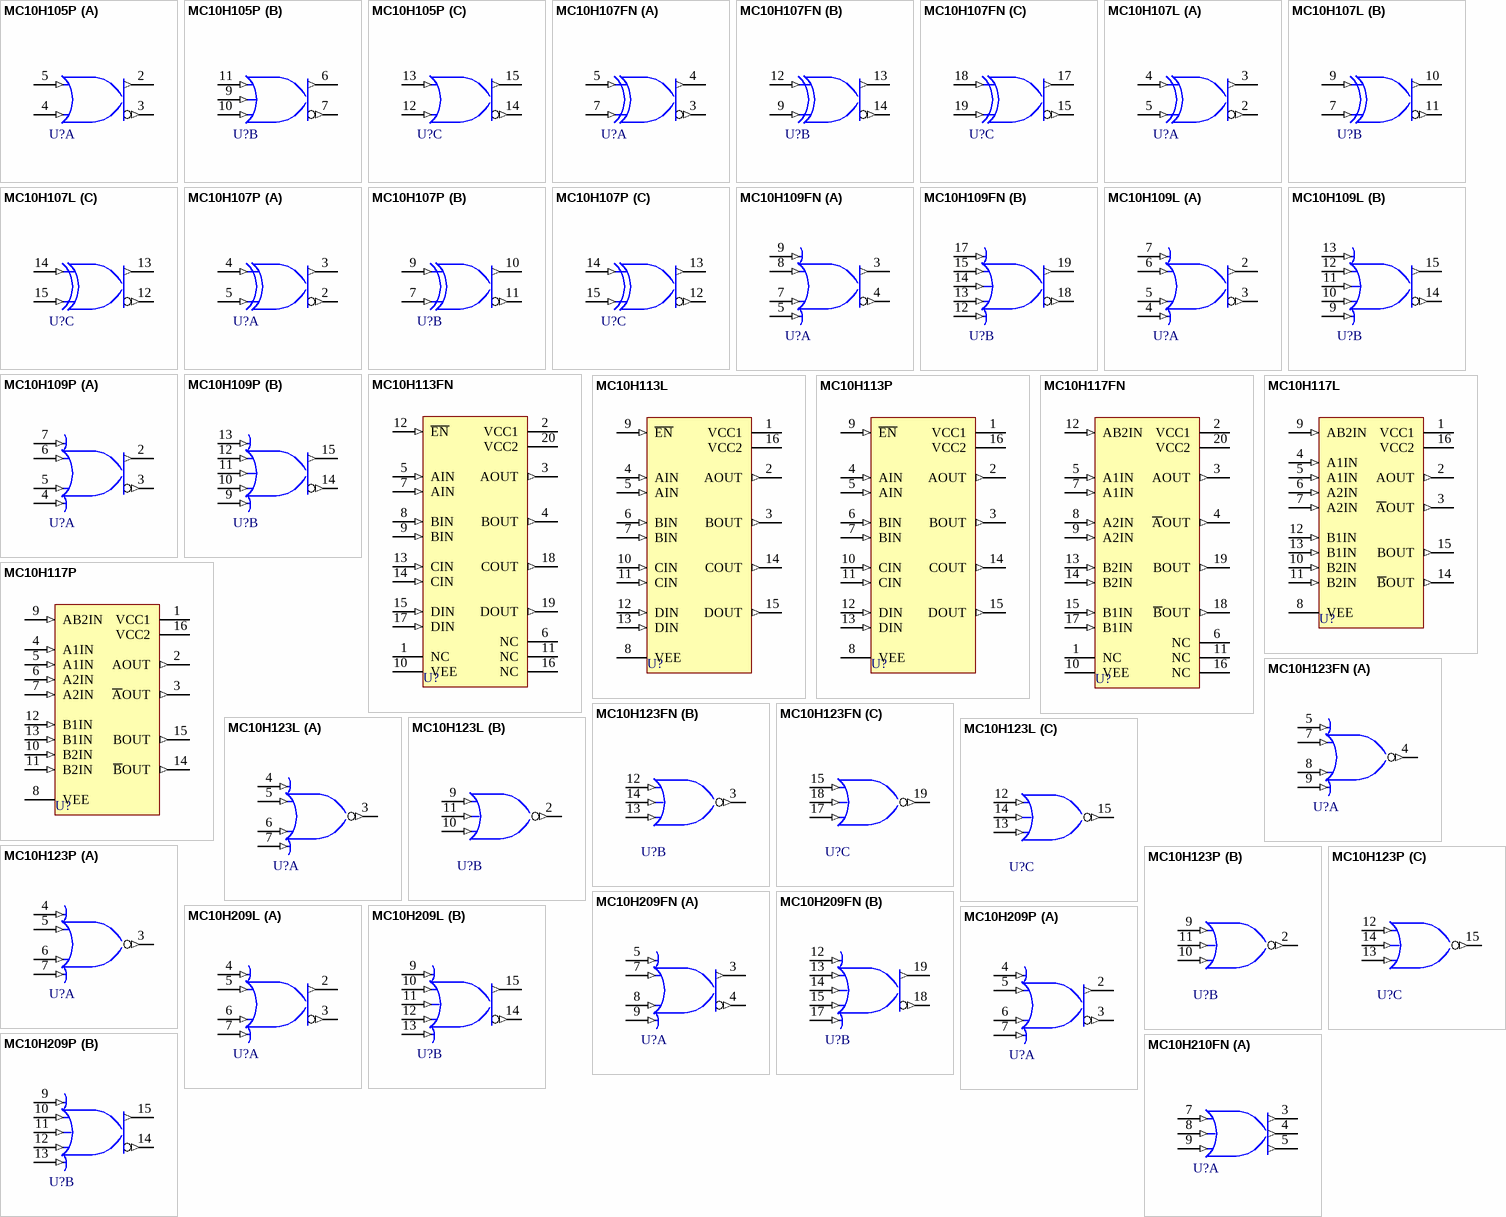
[diagram p2: symbols MC10H105P to MC10H210FN]

## MC10H105P
designator U?
Triple 2-3-2-Input OR/NOR Gate; Published: 15-Apr-2002; DatasheetVersion: 1996; PackageVersion: Apr-2000; PackageReference: 648-08; Publisher: Altium Limited; PackageDescription: DIP; 16 Leads; Row Spacing 7.62 mm; Pitch 2.54 mm; Code_JEDEC: MS-001-BB; ComponentLink1Description: Manufacturer Link; ComponentLink1URL: http://www.onsemi.com/; ComponentLink2Description: Datasheet; ComponentLink2URL: http://www.onsemi.com/pub/Collateral/MC10H105-D.PDF
footprint 648-08 (DIP; 16 Leads; Row Spacing 7.62 mm; Pitch 2.54 mm)
pins on every part: 1 VCC1 (power) hidden to VCC1, 8 VEE (power) hidden to VEE, 16 VCC2 (power) hidden to VCC2
part A pins: 2 Y (out), 3 ~{Y} (out), 4 B (in), 5 A (in)
part B pins: 6 Y (out), 7 ~{Y} (out), 9 B (in), 10 C (in), 11 A (in)
part C pins: 12 B (in), 13 A (in), 14 ~{Y} (out), 15 Y (out)

## MC10H107FN
designator U?
Triple 2-Input XOR/XNOR Gate; Note: NC Pins are pins 1, 6, 11, 16 and not drawn.; Published: 15-Apr-2002; LatestRevisionDate: 13-Apr-2006; LatestRevisionNote: IPC-7351 Footprint Added.; DatasheetVersion: 1996; PackageVersion: 1996; PackageReference: 775-02; Publisher: Altium Limited; PackageDescription: 20-Pin Leaded Chip Carrier 1.27 mm Pitch; ComponentLink1Description: Manufacturer Link; ComponentLink1URL: http://www.onsemi.com/; ComponentLink2Description: Datasheet; ComponentLink2URL: http://www.onsemi.com/pub/Collateral/MC10H107-D.PDF
footprint 775-02_N (Leaded Chip Carrier, 20-Leads, Body 9x9mm, Pitch 1.27mm, IPC Medium Density)
footprint 775-02_L (Leaded Chip Carrier, 20-Leads, Body 9x9mm, Pitch 1.27mm, IPC High Density)
footprint 775-02_M (Leaded Chip Carrier, 20-Leads, Body 9x9mm, Pitch 1.27mm, IPC Low Density)
pins on every part: 2 VCC1 (power) hidden to VCC1, 10 VEE (power) hidden to VEE, 20 VCC2 (power) hidden to VCC2
part A pins: 3 ~{Y} (out), 4 Y (out), 5 A (in), 7 B (in)
part B pins: 9 B (in), 12 A (in), 13 Y (out), 14 ~{Y} (out)
part C pins: 15 ~{Y} (out), 16 VCC2 (power) hidden to VCC2, 17 Y (out), 18 A (in), 19 B (in)

## MC10H107L
designator U?
Triple 2-Input XOR/XNOR Gate; Published: 15-Apr-2002; DatasheetVersion: 1996; PackageVersion: 1996; PackageReference: 620-10; Publisher: Altium Limited; PackageDescription: DIP; 16 Leads; Row Spacing 7.62 mm; Pitch 2.54 mm; ComponentLink1Description: Manufacturer Link; ComponentLink1URL: http://www.onsemi.com/; ComponentLink2Description: Datasheet; ComponentLink2URL: http://www.onsemi.com/pub/Collateral/MC10H107-D.PDF
footprint 620-10 (DIP; 16 Leads; Row Spacing 7.62 mm; Pitch 2.54 mm)
pins on every part: 1 VCC1 (power) hidden to VCC1, 8 VEE (power) hidden to VEE, 16 VCC2 (power) hidden to VCC2
part A pins: 2 ~{Y} (out), 3 Y (out), 4 A (in), 5 B (in)
part B pins: 7 B (in), 9 A (in), 10 Y (out), 11 ~{Y} (out)
part C pins: 12 ~{Y} (out), 13 Y (out), 14 A (in), 15 B (in)

## MC10H107P
designator U?
Triple 2-Input XOR/XNOR Gate; Published: 15-Apr-2002; DatasheetVersion: 1996; PackageVersion: Apr-2000; PackageReference: 648-08; Publisher: Altium Limited; PackageDescription: DIP; 16 Leads; Row Spacing 7.62 mm; Pitch 2.54 mm; Code_JEDEC: MS-001-BB; ComponentLink1Description: Manufacturer Link; ComponentLink1URL: http://www.onsemi.com/; ComponentLink2Description: Datasheet; ComponentLink2URL: http://www.onsemi.com/pub/Collateral/MC10H107-D.PDF
footprint 648-08 (DIP; 16 Leads; Row Spacing 7.62 mm; Pitch 2.54 mm)
pins on every part: 1 VCC1 (power) hidden to VCC1, 8 VEE (power) hidden to VEE, 16 VCC2 (power) hidden to VCC2
part A pins: 2 ~{Y} (out), 3 Y (out), 4 A (in), 5 B (in)
part B pins: 7 B (in), 9 A (in), 10 Y (out), 11 ~{Y} (out)
part C pins: 12 ~{Y} (out), 13 Y (out), 14 A (in), 15 B (in)

## MC10H109FN
designator U?
Dual 4-5-Input OR/NOR Gate; Note: NC Pins are pins 1, 6, 11, 16 and not drawn.; Published: 15-Apr-2002; LatestRevisionDate: 13-Apr-2006; LatestRevisionNote: IPC-7351 Footprint Added.; DatasheetVersion: 1996; PackageVersion: 1996; PackageReference: 775-02; Publisher: Altium Limited; PackageDescription: 20-Pin Leaded Chip Carrier 1.27 mm Pitch; ComponentLink1Description: Manufacturer Link; ComponentLink1URL: http://www.onsemi.com/; ComponentLink2Description: Datasheet; ComponentLink2URL: http://www.onsemi.com/pub/Collateral/MC10H109-D.PDF
footprint 775-02_N (Leaded Chip Carrier, 20-Leads, Body 9x9mm, Pitch 1.27mm, IPC Medium Density)
footprint 775-02_L (Leaded Chip Carrier, 20-Leads, Body 9x9mm, Pitch 1.27mm, IPC High Density)
footprint 775-02_M (Leaded Chip Carrier, 20-Leads, Body 9x9mm, Pitch 1.27mm, IPC Low Density)
pins on every part: 2 VCC1 (power) hidden to VCC1, 10 VEE (power) hidden to VEE, 20 VCC2 (power) hidden to VCC2
part A pins: 3 Y (out), 4 ~{Y} (out), 5 D (in), 7 C (in), 8 B (in), 9 A (in)
part B pins: 12 E (in), 13 D (in), 14 C (in), 15 B (in), 17 A (in), 18 ~{Y} (out), 19 Y (out)

## MC10H109L
designator U?
Dual 4-5-Input OR/NOR Gate; Published: 15-Apr-2002; DatasheetVersion: 1996; PackageVersion: 1996; PackageReference: 620-10; Publisher: Altium Limited; PackageDescription: DIP; 16 Leads; Row Spacing 7.62 mm; Pitch 2.54 mm; ComponentLink1Description: Manufacturer Link; ComponentLink1URL: http://www.onsemi.com/; ComponentLink2Description: Datasheet; ComponentLink2URL: http://www.onsemi.com/pub/Collateral/MC10H109-D.PDF
footprint 620-10 (DIP; 16 Leads; Row Spacing 7.62 mm; Pitch 2.54 mm)
pins on every part: 1 VCC1 (power) hidden to VCC1, 8 VEE (power) hidden to VEE, 16 VCC2 (power) hidden to VCC2
part A pins: 2 Y (out), 3 ~{Y} (out), 4 D (in), 5 C (in), 6 B (in), 7 A (in)
part B pins: 9 E (in), 10 D (in), 11 C (in), 12 B (in), 13 A (in), 14 ~{Y} (out), 15 Y (out)

## MC10H109P
designator U?
Dual 4-5-Input OR/NOR Gate; Published: 15-Apr-2002; DatasheetVersion: 1996; PackageVersion: Apr-2000; PackageReference: 648-08; Publisher: Altium Limited; PackageDescription: DIP; 16 Leads; Row Spacing 7.62 mm; Pitch 2.54 mm; Code_JEDEC: MS-001-BB; ComponentLink1Description: Manufacturer Link; ComponentLink1URL: http://www.onsemi.com/; ComponentLink2Description: Datasheet; ComponentLink2URL: http://www.onsemi.com/pub/Collateral/MC10H109-D.PDF
footprint 648-08 (DIP; 16 Leads; Row Spacing 7.62 mm; Pitch 2.54 mm)
pins on every part: 1 VCC1 (power) hidden to VCC1, 8 VEE (power) hidden to VEE, 16 VCC2 (power) hidden to VCC2
part A pins: 2 Y (out), 3 ~{Y} (out), 4 D (in), 5 C (in), 6 B (in), 7 A (in)
part B pins: 9 E (in), 10 D (in), 11 C (in), 12 B (in), 13 A (in), 14 ~{Y} (out), 15 Y (out)

## MC10H113FN
designator U?
Quad XOR Gate; Note: NC Pins are 1, 6, 11, 16.; Published: 15-Apr-2002; LatestRevisionDate: 13-Apr-2006; LatestRevisionNote: IPC-7351 Footprint Added.; DatasheetVersion: 1996; PackageVersion: 1996; PackageReference: 775-02; Publisher: Altium Limited; PackageDescription: 20-Pin Leaded Chip Carrier 1.27 mm Pitch; ComponentLink1Description: Manufacturer Link; ComponentLink1URL: http://www.onsemi.com/; ComponentLink2Description: Datasheet; ComponentLink2URL: http://www.onsemi.com/pub/Collateral/MC10H113-D.PDF
footprint 775-02_N (Leaded Chip Carrier, 20-Leads, Body 9x9mm, Pitch 1.27mm, IPC Medium Density)
footprint 775-02_L (Leaded Chip Carrier, 20-Leads, Body 9x9mm, Pitch 1.27mm, IPC High Density)
footprint 775-02_M (Leaded Chip Carrier, 20-Leads, Body 9x9mm, Pitch 1.27mm, IPC Low Density)
pins: 1 NC, 2 VCC1 (power), 3 AOUT (out), 4 BOUT (out), 5 AIN (in), 6 NC, 7 AIN (in), 8 BIN (in), 9 BIN (in), 10 VEE (power), 11 NC, 12 ~{EN} (in), 13 CIN (in), 14 CIN (in), 15 DIN (in), 16 NC, 17 DIN (in), 18 COUT (out), 19 DOUT (out), 20 VCC2 (power)

## MC10H113L
designator U?
Quad XOR Gate; Published: 15-Apr-2002; DatasheetVersion: 1996; PackageVersion: 1996; PackageReference: 620-10; Publisher: Altium Limited; PackageDescription: DIP; 16 Leads; Row Spacing 7.62 mm; Pitch 2.54 mm; ComponentLink1Description: Manufacturer Link; ComponentLink1URL: http://www.onsemi.com/; ComponentLink2Description: Datasheet; ComponentLink2URL: http://www.onsemi.com/pub/Collateral/MC10H113-D.PDF
footprint 620-10 (DIP; 16 Leads; Row Spacing 7.62 mm; Pitch 2.54 mm)
pins: 1 VCC1 (power), 2 AOUT (out), 3 BOUT (out), 4 AIN (in), 5 AIN (in), 6 BIN (in), 7 BIN (in), 8 VEE (power), 9 ~{EN} (in), 10 CIN (in), 11 CIN (in), 12 DIN (in), 13 DIN (in), 14 COUT (out), 15 DOUT (out), 16 VCC2 (power)

## MC10H113P
designator U?
Quad XOR Gate; Published: 15-Apr-2002; DatasheetVersion: 1996; PackageVersion: Apr-2000; PackageReference: 648-08; Publisher: Altium Limited; PackageDescription: DIP; 16 Leads; Row Spacing 7.62 mm; Pitch 2.54 mm; Code_JEDEC: MS-001-BB; ComponentLink1Description: Manufacturer Link; ComponentLink1URL: http://www.onsemi.com/; ComponentLink2Description: Datasheet; ComponentLink2URL: http://www.onsemi.com/pub/Collateral/MC10H113-D.PDF
footprint 648-08 (DIP; 16 Leads; Row Spacing 7.62 mm; Pitch 2.54 mm)
pins: 1 VCC1 (power), 2 AOUT (out), 3 BOUT (out), 4 AIN (in), 5 AIN (in), 6 BIN (in), 7 BIN (in), 8 VEE (power), 9 ~{EN} (in), 10 CIN (in), 11 CIN (in), 12 DIN (in), 13 DIN (in), 14 COUT (out), 15 DOUT (out), 16 VCC2 (power)

## MC10H117FN
designator U?
Dual 2-Wide 2-3-Input OR-AND/OR-AND-Invert Gate; Published: 15-Apr-2002; LatestRevisionDate: 13-Apr-2006; LatestRevisionNote: IPC-7351 Footprint Added.; DatasheetVersion: 1996; PackageVersion: 1996; PackageReference: 775-02; Publisher: Altium Limited; PackageDescription: 20-Pin Leaded Chip Carrier 1.27 mm Pitch; ComponentLink1Description: Manufacturer Link; ComponentLink1URL: http://www.onsemi.com/; ComponentLink2Description: Datasheet; ComponentLink2URL: http://www.onsemi.com/pub/Collateral/MC10H117-D.PDF
footprint 775-02_N (Leaded Chip Carrier, 20-Leads, Body 9x9mm, Pitch 1.27mm, IPC Medium Density)
footprint 775-02_L (Leaded Chip Carrier, 20-Leads, Body 9x9mm, Pitch 1.27mm, IPC High Density)
footprint 775-02_M (Leaded Chip Carrier, 20-Leads, Body 9x9mm, Pitch 1.27mm, IPC Low Density)
pins: 1 NC, 2 VCC1 (power), 3 AOUT (out), 4 ~{A}OUT (out), 5 A1IN (in), 6 NC, 7 A1IN (in), 8 A2IN (in), 9 A2IN (in), 10 VEE (power), 11 NC, 12 AB2IN (in), 13 B2IN (in), 14 B2IN (in), 15 B1IN (in), 16 NC, 17 B1IN (in), 18 ~{B}OUT (out), 19 BOUT (out), 20 VCC2 (power)

## MC10H117L
designator U?
Dual 2-Wide 2-3-Input OR-AND/OR-AND-Invert Gate; Published: 15-Apr-2002; DatasheetVersion: 1996; PackageVersion: 1996; PackageReference: 620-10; Publisher: Altium Limited; PackageDescription: DIP; 16 Leads; Row Spacing 7.62 mm; Pitch 2.54 mm; ComponentLink1Description: Manufacturer Link; ComponentLink1URL: http://www.onsemi.com/; ComponentLink2Description: Datasheet; ComponentLink2URL: http://www.onsemi.com/pub/Collateral/MC10H117-D.PDF
footprint 620-10 (DIP; 16 Leads; Row Spacing 7.62 mm; Pitch 2.54 mm)
pins: 1 VCC1 (power), 2 AOUT (out), 3 ~{A}OUT (out), 4 A1IN (in), 5 A1IN (in), 6 A2IN (in), 7 A2IN (in), 8 VEE (power), 9 AB2IN (in), 10 B2IN (in), 11 B2IN (in), 12 B1IN (in), 13 B1IN (in), 14 ~{B}OUT (out), 15 BOUT (out), 16 VCC2 (power)

## MC10H117P
designator U?
Dual 2-Wide 2-3-Input OR-AND/OR-AND-Invert Gate; Published: 15-Apr-2002; DatasheetVersion: 1996; PackageVersion: Apr-2000; PackageReference: 648-08; Publisher: Altium Limited; PackageDescription: DIP; 16 Leads; Row Spacing 7.62 mm; Pitch 2.54 mm; Code_JEDEC: MS-001-BB; ComponentLink1Description: Manufacturer Link; ComponentLink1URL: http://www.onsemi.com/; ComponentLink2Description: Datasheet; ComponentLink2URL: http://www.onsemi.com/pub/Collateral/MC10H117-D.PDF
footprint 648-08 (DIP; 16 Leads; Row Spacing 7.62 mm; Pitch 2.54 mm)
pins: 1 VCC1 (power), 2 AOUT (out), 3 ~{A}OUT (out), 4 A1IN (in), 5 A1IN (in), 6 A2IN (in), 7 A2IN (in), 8 VEE (power), 9 AB2IN (in), 10 B2IN (in), 11 B2IN (in), 12 B1IN (in), 13 B1IN (in), 14 ~{B}OUT (out), 15 BOUT (out), 16 VCC2 (power)

## MC10H123FN
designator U?
Triple 4-3-3-Input Bus Driver; Note: NC Pins are pins 1, 6, 11, 16 and not drawn.; Published: 15-Apr-2002; LatestRevisionDate: 13-Apr-2006; LatestRevisionNote: IPC-7351 Footprint Added.; DatasheetVersion: 1996; PackageVersion: 1996; PackageReference: 775-02; Publisher: Altium Limited; PackageDescription: 20-Pin Leaded Chip Carrier 1.27 mm Pitch; ComponentLink1Description: Manufacturer Link; ComponentLink1URL: http://www.onsemi.com/; ComponentLink2Description: Datasheet; ComponentLink2URL: http://www.onsemi.com/pub/Collateral/MC10H123-D.PDF
footprint 775-02_N (Leaded Chip Carrier, 20-Leads, Body 9x9mm, Pitch 1.27mm, IPC Medium Density)
footprint 775-02_L (Leaded Chip Carrier, 20-Leads, Body 9x9mm, Pitch 1.27mm, IPC High Density)
footprint 775-02_M (Leaded Chip Carrier, 20-Leads, Body 9x9mm, Pitch 1.27mm, IPC Low Density)
pins on every part: 2 VCC1 (power) hidden to VCC1, 10 VEE (power) hidden to VEE, 20 VCC2 (power) hidden to VCC2
part A pins: 4 ~{Y} (out), 5 A (in), 7 B (in), 8 C (in), 9 D (in)
part B pins: 3 ~{Y} (out), 12 A (in), 13 C (in), 14 B (in)
part C pins: 15 A (in), 17 C (in), 18 B (in), 19 ~{Y} (out)

## MC10H123L
designator U?
Triple 4-3-3-Input Bus Driver; Published: 15-Apr-2002; DatasheetVersion: 1996; PackageVersion: 1996; PackageReference: 620-10; Publisher: Altium Limited; PackageDescription: DIP; 16 Leads; Row Spacing 7.62 mm; Pitch 2.54 mm; ComponentLink1Description: Manufacturer Link; ComponentLink1URL: http://www.onsemi.com/; ComponentLink2Description: Datasheet; ComponentLink2URL: http://www.onsemi.com/pub/Collateral/MC10H123-D.PDF
footprint 620-10 (DIP; 16 Leads; Row Spacing 7.62 mm; Pitch 2.54 mm)
pins on every part: 1 VCC1 (power) hidden to VCC1, 8 VEE (power) hidden to VEE, 16 VCC2 (power) hidden to VCC2
part A pins: 3 ~{Y} (out), 4 A (in), 5 B (in), 6 C (in), 7 D (in)
part B pins: 2 ~{Y} (out), 9 A (in), 10 C (in), 11 B (in)
part C pins: 12 A (in), 13 C (in), 14 B (in), 15 ~{Y} (out)

## MC10H123P
designator U?
Triple 4-3-3-Input Bus Driver; Published: 15-Apr-2002; DatasheetVersion: 1996; PackageVersion: Apr-2000; PackageReference: 648-08; Publisher: Altium Limited; PackageDescription: DIP; 16 Leads; Row Spacing 7.62 mm; Pitch 2.54 mm; Code_JEDEC: MS-001-BB; ComponentLink1Description: Manufacturer Link; ComponentLink1URL: http://www.onsemi.com/; ComponentLink2Description: Datasheet; ComponentLink2URL: http://www.onsemi.com/pub/Collateral/MC10H123-D.PDF
footprint 648-08 (DIP; 16 Leads; Row Spacing 7.62 mm; Pitch 2.54 mm)
pins on every part: 1 VCC1 (power) hidden to VCC1, 8 VEE (power) hidden to VEE, 16 VCC2 (power) hidden to VCC2
part A pins: 3 ~{Y} (out), 4 A (in), 5 B (in), 6 C (in), 7 D (in)
part B pins: 2 ~{Y} (out), 9 A (in), 10 C (in), 11 B (in)
part C pins: 12 A (in), 13 C (in), 14 B (in), 15 ~{Y} (out)

## MC10H209FN
designator U?
Dual 4-5-Input OR/NOR Gate; Note: NC Pins are pins 1, 6, 11, 16 and not drawn.; Published: 15-Apr-2002; LatestRevisionDate: 13-Apr-2006; LatestRevisionNote: IPC-7351 Footprint Added.; DatasheetVersion: 1996; PackageVersion: 1996; PackageReference: 775-02; Publisher: Altium Limited; PackageDescription: 20-Pin Leaded Chip Carrier 1.27 mm Pitch; ComponentLink1Description: Manufacturer Link; ComponentLink1URL: http://www.onsemi.com/; ComponentLink2Description: Datasheet; ComponentLink2URL: http://www.onsemi.com/pub/Collateral/MC10H209-D.PDF
footprint 775-02_N (Leaded Chip Carrier, 20-Leads, Body 9x9mm, Pitch 1.27mm, IPC Medium Density)
footprint 775-02_L (Leaded Chip Carrier, 20-Leads, Body 9x9mm, Pitch 1.27mm, IPC High Density)
footprint 775-02_M (Leaded Chip Carrier, 20-Leads, Body 9x9mm, Pitch 1.27mm, IPC Low Density)
pins on every part: 2 VCC1 (power) hidden to VCC1, 10 VEE (power) hidden to VEE, 20 VCC2 (power) hidden to VCC2
part A pins: 3 Y (out), 4 ~{Y} (out), 5 A (in), 7 B (in), 8 C (in), 9 D (in)
part B pins: 12 A (in), 13 B (in), 14 C (in), 15 D (in), 17 E (in), 18 ~{Y} (out), 19 Y (out)

## MC10H209L
designator U?
Dual 4-5-Input OR/NOR Gate; Published: 15-Apr-2002; DatasheetVersion: 1996; PackageVersion: Apr-2000; PackageReference: 648-08; Publisher: Altium Limited; PackageDescription: DIP; 16 Leads; Row Spacing 7.62 mm; Pitch 2.54 mm; Code_JEDEC: MS-001-BB; ComponentLink1Description: Manufacturer Link; ComponentLink1URL: http://www.onsemi.com/; ComponentLink2Description: Datasheet; ComponentLink2URL: http://www.onsemi.com/pub/Collateral/MC10H209-D.PDF
footprint 648-08 (DIP; 16 Leads; Row Spacing 7.62 mm; Pitch 2.54 mm)
pins on every part: 1 VCC1 (power) hidden to VCC1, 8 VEE (power) hidden to VEE, 16 VCC2 (power) hidden to VCC2
part A pins: 2 Y (out), 3 ~{Y} (out), 4 A (in), 5 B (in), 6 C (in), 7 D (in)
part B pins: 9 A (in), 10 B (in), 11 C (in), 12 D (in), 13 E (in), 14 ~{Y} (out), 15 Y (out)